# Altium footprint library Sim7600.PcbLib: 1 footprints
Each footprint in its own frame and in the unit in brackets; x right, y up, seen from the top. Pads: shape width x height; smd on the part's side, far side on the other; paste and mask are expansions set on the pad; w line width, h text height; cw(c..) or ccw(c..) is an arc to the next point about the centre after c.
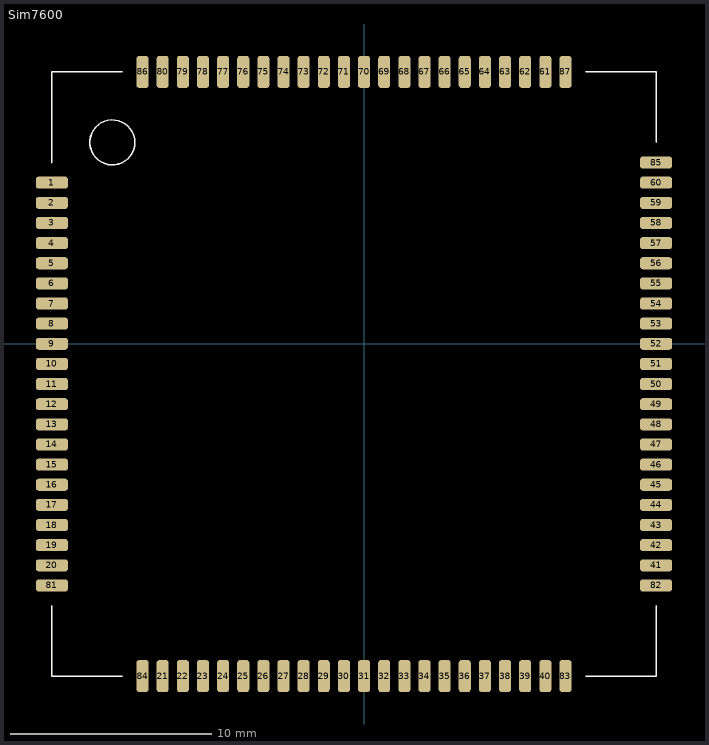
[diagram p0: the footprint, top view; thin cyan lines are the x and y axes]

## Sim7600 [mm] "Sim7600 4G"
height 2
pads (87):
  rrect50% 1.6x0.6 smd: 1(-15.5,8) 2(-15.5,7) 3(-15.5,6) 4(-15.5,5) 5(-15.5,4) 6(-15.5,3) 7(-15.5,2) 8(-15.5,1) 9(-15.5,0) 10(-15.5,-1) 11(-15.5,-2) 12(-15.5,-3) 13(-15.5,-4) 14(-15.5,-5) 15(-15.5,-6) 16(-15.5,-7) 17(-15.5,-8) 18(-15.5,-9) 19(-15.5,-10) 20(-15.5,-11) 41(14.5,-11) 42(14.5,-10) 43(14.5,-9) 44(14.5,-8) 45(14.5,-7) 46(14.5,-6) 47(14.5,-5) 48(14.5,-4) 49(14.5,-3) 50(14.5,-2) 51(14.5,-1) 52(14.5,0) 53(14.5,1) 54(14.5,2) 55(14.5,3) 56(14.5,4) 57(14.5,5) 58(14.5,6) 59(14.5,7) 60(14.5,8) 81(-15.5,-12) 82(14.5,-12) 85(14.5,9)
  rrect50% 0.6x1.6 smd: 21(-10,-16.5) 22(-9,-16.5) 23(-8,-16.5) 24(-7,-16.5) 25(-6,-16.5) 26(-5,-16.5) 27(-4,-16.5) 28(-3,-16.5) 29(-2,-16.5) 30(-1,-16.5) 31(0,-16.5) 32(1,-16.5) 33(2,-16.5) 34(3,-16.5) 35(4,-16.5) 36(5,-16.5) 37(6,-16.5) 38(7,-16.5) 39(8,-16.5) 40(9,-16.5) 61(9,13.5) 62(8,13.5) 63(7,13.5) 64(6,13.5) 65(5,13.5) 66(4,13.5) 67(3,13.5) 68(2,13.5) 69(1,13.5) 70(0,13.5) 71(-1,13.5) 72(-2,13.5) 73(-3,13.5) 74(-4,13.5) 75(-5,13.5) 76(-6,13.5) 77(-7,13.5) 78(-8,13.5) 79(-9,13.5) 80(-10,13.5) 83(10,-16.5) 84(-11,-16.5) 86(-11,13.5) 87(10,13.5)
Top Overlay:
  circle w0.08: c-12.5,10 r1.118
  lines w0.08: -15.5,-13 -15.5,-16.5 -12,-16.5 ; -15.5,9 -15.5,13.5 -12,13.5 ; 11,-16.5 14.5,-16.5 14.5,-13 ; 11,13.5 14.5,13.5 14.5,10
3D body: height 2, standoff 0, extent -15.5,-16.5 14.5,13.5